# Altium schematic symbol library HAL.SCHLIB: 46 symbols
Pins are listed as number, name and electrical type; pins without a type are passive.

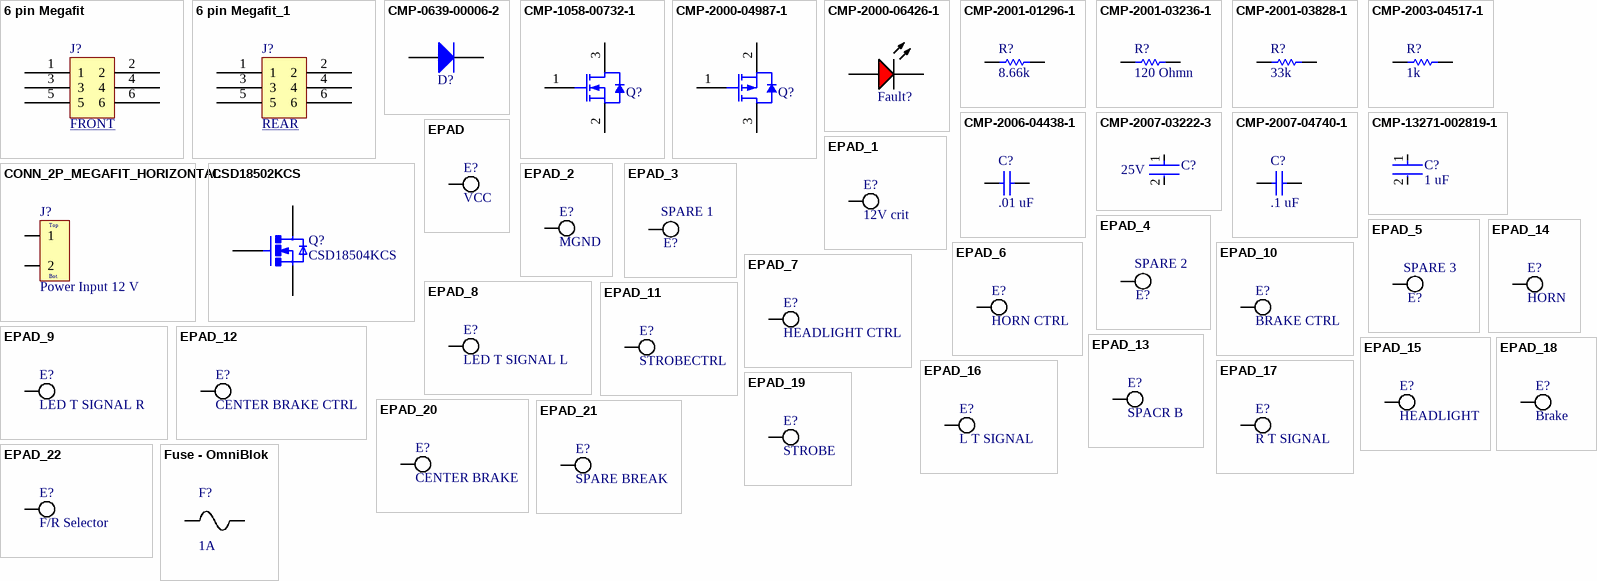
[diagram p0: symbols 6 pin Megafit to Fuse - OmniBlok]

## 6 pin Megafit
designator J?, comment FRONT
768250006-https://www.digikey.com/en/products/detail/molex/0768250006/5639613?s=N4IgTCBcDaIOwDYAcYCsAGTCQF0C%2BQA; ComponentLink1Description: New link; ComponentLink1URL: *https://www.digikey.com/en/products/detail/molex/0768250006/5639613?s=N4IgTCBcDaIOwDYAcYCsAGTCQF0C%2BQA
footprint PCBComponent_1 - duplicate
pins: 1, 2, 3, 4, 5, 6

## 6 pin Megafit_1
designator J?, comment REAR
768250006-https://www.digikey.com/en/products/detail/molex/0768250006/5639613?s=N4IgTCBcDaIOwDYAcYCsAGTCQF0C%2BQA; ComponentLink1Description: New link; ComponentLink1URL: *https://www.digikey.com/en/products/detail/molex/0768250006/5639613?s=N4IgTCBcDaIOwDYAcYCsAGTCQF0C%2BQA
footprint PCBComponent_1
pins: 1, 2, 3, 4, 5, 6

## CMP-0639-00006-2
designator D?, comment 1N4001-T  (value not drawn)
1.0 A Rectifier, 15 pF, 50 V, -65 to 150 degC, 2-Pin DO-41 Plastic, RoHS, Tape and Reel; Manufacturer: Diodes Inc; Manufacturer: Diodes; VF (V): 1; CT (pF): 15; Max. IR (uA): 5; VRRM (V): 50; Max. IFSM (A): 30; RoHS: TRUE; Mounting Technology: Through Hole; PartNumber: 1N4001-T; ComponentLink2Description: Datasheet; DatasheetVersion: Rev. 8-2; Operating Temperature Range (degC): -65 to 150; Packing: Tape and Reel; PackageReference: DO-41-P-2; ComponentLink1URL: http://diodes.com/; PackageDescription: 2-Pin Axial Lead, Body 4.635 x 2.36 mm, Lead Spread 25.4 mm; ComponentLink2URL: http://diodes.com/datasheets/ds28002.pdf; Max. Average Rectified Current IO (A): 1; ComponentLink1Description: Manufacturer URL; Manufacturer Part Number: 1N4001-T
footprint DIOD-DO-41-P-2_V (2-Leads, Axial Lead, Body 4.635x2.36mm, Pin Spacing 9mm)
footprint DIOD-DO-41-P-2_V2 (2-Leads, Axial Lead, Body 4.635x2.36mm, Pin Spacing 3mm)
pins: 1 A, 2 K

## CMP-1058-00732-1
designator Q?, comment NTR4501NT1G  (value not drawn)
Power MOSFET, 20 V, 3.2 A, Single N-Channel, 3-Pin SOT-23, Pb-Free, Tape and Reel; Manufacturer: On Semiconductor; Crss Typ (pF): 50; Ciss Typ (pF): 200; VGS(th) Max (V): 1.2; Coss Typ (pF): 80; PD Max (W): 1.25; VGS Max (V): 12; V(BR)DSS Min (V): 20; Channel Polarity: N Channel; Qrr Typ (nC): 3; PackageReference: SOT-23-3-318-08; ComponentLink2Description: Datasheet; PackageVersion: Rev. AP, 11/2009; ComponentLink1URL: http://www.onsemi.com/; RoHS: Pb-Free; Mounting Technology: Surface Mount; Package Type: SOT-23-3; ComponentLink1Description: Manufacturer URL; PackageDescription: 3-Pin Small Outline Transistor, Body 2.92 x 1.3 mm, Pitch 0.95 mm; Packing: Tape and Reel; PartNumber: NTR4501NT1G; DatasheetVersion: Rev. 13; ComponentLink2URL: http://www.onsemi.cn/pub_link/Collateral/NTR4501N-D.PDF; Configuration: Single; ComponentLink3URL: http://www.onsemi.cn/pub_link/Collateral/318-08.PDF; ComponentLink3Description: Package Specification; Manufacturer: ON Semiconductor; Manufacturer Part Number: NTR4501NT1G
footprint ONSC-SOT-23-3-318-08_V (SOT23, 3-Leads, Body 2.92x1.3mm, Pitch 0.95mm)
pins: 1 G, 2 S, 3 D

## CMP-2000-04987-1
designator Q?, comment IRLML6402TRPBF  (value not drawn)
HEXFET(R) Power P-Channel MOSFET, -20 V, -3.7 A, -55 to 150 degC, 3-Pin SOT-23, RoHS, Tape and Reel; Manufacturer: International Rectifier; Drain-to-Source Voltage [Vdss]: 20V; Rated Power Dissipation: 1.3W; Qg Gate Charge: 8nC; Drain-Source On Resistance-Max: 0.065O; Channel Type: P-Channel; Package Reference: SOT-23-3; Manufacturer URL: http://internationalrectifier.com/; Datasheet URL: http://datasheet.octopart.com/IRLML6402TRPBF-International-Rectifier-datasheet-93882.pdf; Datasheet Version: Feb-05; Package Description: 3-Pin Small Outline Transistor, Body 2.92 x 1.3 mm, Pitch 0.95 mm; Manufacturer Part Number: IRLML6402TRPBF
footprint INTR-SOT-23-3_V (SOT23, 3-Leads, Body 2.92x1.3mm, Pitch 1.9mm)
pins: 1 GATE, 2 SOURCE, 3 DRAIN

## CMP-2000-06426-1
designator Fault?, comment HSMH-C150  (value not drawn)
LED Uni-Color Red, 65 mW, 25 mA, -40 to 85 degC, 2-Pin SMD, RoHS, Tape and Reel; Manufacturer: Avago; Manufacturer: Broadcom Avago; Product Height (mm): 1.1mm; Power Dissipation: 78W; Product Length (mm): 3.2mm; Forward Voltage: 2.6V; Luminous Intensity: 17mcd; DELETED: Compliant; Shape Type: Rectangular; Peak Wavelength: 660nm; Main Category: ChipLED; Dominant Wave Length: 639nm; Rad Hardened: No; Lens Type: ColorlessDiffused; Product Depth (mm): 1.6mm; Reverse Voltage: 5V; Forward Current: 25mA; Chip Material: GaAlAs; Test Current (It): 20mA; Viewing Angle: 170deg; Number of  Elements: 1; Type: Uni-Color; Package Reference: HSMX-C150; Package Description: 2-Pin Surface Mount Device, Body 3.2 x 1.6 mm; Operating Temp Range: -40Cto85C; Mounting: SurfaceMount; Emitting Color: Red; Pin Count: 2; Operating Temperature Classification: Industrial; Datasheet URL: http://media.digikey.com/pdf/Data%20Sheets/Avago%20PDFs/HSMz-Czzz.pdf; Package Type: ChipLed; Mounting Technology: SurfaceMount; High Brightness: No; Lens Dimensions: 2x1.6x0.6mm; Manufacturer URL: http://www.avagotech.com/; Lum Intensity: 17mcd; Datasheet Version: 03/2012; Packaging: TapeandReel; Manufacturer Part Number: HSMH-C150
footprint AVAG-HSMX-C150_V (SMD, 2-Leads, Body 3.2x1.6mm)
pins: 1 A, 2 K

## CMP-2001-01296-1
designator R?, comment 8.66k
RC0805FR-078K66L; Manufacturer: Yageo; Part Number: RC0805FR-078K66L; Manufacturer Part Number: RC0805FR-078K66L
footprint RESC2013X60X35ML10T20 (Chip Resistor, 2-Leads, Body 2.00x1.25mm, IPC Low Density)
footprint RESC2013X60X35NL10T20 (Chip Resistor, 2-Leads, Body 2.00x1.25mm, IPC Medium Density)
footprint RESC2013X60X35LL10T20 (Chip Resistor, 2-Leads, Body 2.00x1.25mm, IPC High Density)
pins: 1, 2
1 alternate drawing of the same symbol

## CMP-2001-03236-1
designator R?, comment 120 Ohmn
RR1220P-121-D; Manufacturer: Susumu; Part Number: RR1220P-121-D; Manufacturer Part Number: RR1220P-121-D
footprint RESC2013X50X40LL20T20 (Chip Resistor, 2-Leads, Body 2.00x1.25mm, IPC High Density)
footprint RESC2013X50X40NL20T20 (Chip Resistor, 2-Leads, Body 2.00x1.25mm, IPC Medium Density)
footprint RESC2013X50X40ML20T20 (Chip Resistor, 2-Leads, Body 2.00x1.25mm, IPC Low Density)
pins: 1, 2
1 alternate drawing of the same symbol

## CMP-2001-03828-1
designator R?, comment 33k
CRCW080533K0JNEA; Manufacturer: Vishay Dale; Part Number: CRCW080533K0JNEA; Manufacturer Part Number: CRCW080533K0JNEA
footprint RESC2013X50X30LL20T20 (Chip Resistor, 2-Leads, Body 2.00x1.25mm, IPC High Density)
footprint RESC2013X50X30ML20T20 (Chip Resistor, 2-Leads, Body 2.00x1.25mm, IPC Low Density)
footprint RESC2013X50X30NL20T20 (Chip Resistor, 2-Leads, Body 2.00x1.25mm, IPC Medium Density)
pins: 1, 2
1 alternate drawing of the same symbol

## CMP-2003-04517-1
designator R?, comment 1k
RK73B2BTTD102J; Manufacturer: KOA Speer; Part Number: RK73B2BTTD102J; Manufacturer Part Number: RK73B2BTTD102J
footprint RESC3216X70X40LL20T20 (Chip Resistor, 2-Leads, Body 3.20x1.60mm, IPC High Density)
footprint RESC3216X70X40ML20T20 (Chip Resistor, 2-Leads, Body 3.20x1.60mm, IPC Low Density)
footprint RESC3216X70X40NL20T20 (Chip Resistor, 2-Leads, Body 3.20x1.60mm, IPC Medium Density)
pins: 1, 2
1 alternate drawing of the same symbol

## CMP-2006-04438-1
designator C?, comment .01 uF
Part Number: 06035C472K4T4A; Manufacturer: AVX Interconnect / Elco; Manufacturer: Kyocera AVX; Manufacturer Part Number: 06035C472K4T4A
footprint CAPC1608X90X35LL15T15 (Chip Capacitor, 2-Leads, Body 1.60x0.81mm, IPC High Density)
footprint CAPC1608X90X35NL15T15 (Chip Capacitor, 2-Leads, Body 1.60x0.81mm, IPC Medium Density)
footprint CAPC1608X90X35ML15T15 (Chip Capacitor, 2-Leads, Body 1.60x0.81mm, IPC Low Density)
pins: 1, 2
1 alternate drawing of the same symbol

## CMP-2007-03222-3
designator C?, comment 25V
Chip Multilayer Ceramic Capacitors for General Purpose, 0805, 22uF, X5R, 15%, 20%, 25VGRM21BR61E226ME44L; Manufacturer: Murata; Case/Package: 0805; Depth: 1.25mm; Resistor Type: Ceramic; Voltage Rating: 25V; Lead Free: Lead Free; Voltage Rating (DC): 25V; Case Code (Metric): 2012; Thickness: 0.057inch; REACH SVHC: No SVHC; Material: Ceramic; Tolerance: 20%; Length: 2mm; Capacitance: 22uF; Case Code (Imperial): 0805; Max Operating Temperature: 85°C; Termination: SMD/SMT; Weight: 0.000335oz; Dielectric: X5R; Packaging: Tape and Reel; Voltage: 25V; Package Quantity: 3000; Height: 1.25mm; Mount: Surface Mount; Width: 1.25mm; Min Operating Temperature: -55°C; Manufacturer Part Number: GRM21BR61E226ME44L
footprint FP-GRM21B-0_2-e0_2_0_7-IPC_B
footprint FP-GRM21B-0_2-e0_2_0_7-MFG
footprint FP-GRM21B-0_2-e0_2_0_7-IPC_C
footprint FP-GRM21B-0_2-e0_2_0_7-IPC_A
pins: 1, 2

## CMP-2007-04740-1
designator C?, comment .1 uF
Part Number: 08051C104M4Z2A; Manufacturer: AVX Interconnect / Elco; Manufacturer: Kyocera AVX; Manufacturer Part Number: 08051C104M4Z2A
footprint CAPC2013X140X50LL20T25 (Chip Capacitor, 2-Leads, Body 2.00x1.25mm, IPC High Density)
footprint CAPC2013X140X50ML20T25 (Chip Capacitor, 2-Leads, Body 2.00x1.25mm, IPC Low Density)
footprint CAPC2013X140X50NL20T25 (Chip Capacitor, 2-Leads, Body 2.00x1.25mm, IPC Medium Density)
pins: 1, 2
1 alternate drawing of the same symbol

## CMP-13271-002819-1
designator C?, comment 1 uF
Cap Ceramic 10uF 16V X5R ±10% SMD 1206 +85°C Embossed T/R; Manufacturer: Samsung; Manufacturer Part Number: CL31A106KOHNNNE; Length: 3.2mm; Voltage: 16V; Thickness: 0.071inch; Width: 0.063inch; Radiation Hardening: No; Tolerance: 10%; Min Operating Temperature: -55°C; Mount: Surface Mount; Voltage Rating: 16V; Capacitance: 10uF; Material: Ceramic; Case Code (Metric): 3216; Depth: 1.6mm; Packaging: Tape and Reel; Lead Free: Lead Free; Dielectric: X5R; Contact Plating: Tin; Case Code (Imperial): 1206; Height: 1.6mm; Voltage Rating (DC): 16V; Max Operating Temperature: 85°C; Case/Package: 1206
footprint FP-CL31-IPC_A
footprint FP-CL31-IPC_C
footprint FP-CL31-IPC_B
pins: 1, 2

## CONN_2P_MEGAFIT_HORIZONTAL
designator J?, comment Power Input 12 V
*; Manufacturer Part Number: 0768250002; Manufacturer: Molex; SchematicInformation: MegaFit_2P; DigiKey Part Number: WM11969-ND
footprint CONN_2P_MEGAFIT_HORIZONTAL
pins: 1, 2
text: Top; Bot.

## CSD18502KCS
designator Q?, comment CSD18504KCS
40V, N ch NexFET MOSFET, single TO-220, 2.9mOhm 3-TO-220 -55 to 175; MP: CSD18502KCS; MF: Texas Instruments; Purchase-URL: https://pricing.snapeda.com/search/part/CSD18502KCS/?ref=eda; Package: TO-220-3 Texas Instruments; Value: *; SnapEDA_Link: https://www.snapeda.com/parts/CSD18502KCS/Texas%20Instruments/view-part/277573/?ref=snap; Price: None; Availability: Good; Check_prices: https://www.snapeda.com/parts/CSD18502KCS/Texas%20Instruments/view-part/277573/?ref=eda
footprint TO254P1651X1067X470-3
pins: 1 GATE, 2 DRAIN, 3 SOURCE, 4 DRAIN, 4.1 DRAIN

## EPAD
designator E?, comment VCC  (no BOM)
Pad for probing signals
footprint EPAD
pins: 1

## EPAD_1
designator E?, comment 12V crit  (no BOM)
Pad for probing signals
footprint EPAD
pins: 1

## EPAD_2
designator E?, comment MGND  (no BOM)
Pad for probing signals
footprint EPAD
pins: 1

## EPAD_3
designator E?, comment SPARE 1  (no BOM)
Pad for probing signals
footprint EPAD
pins: 1

## EPAD_4
designator E?, comment SPARE 2  (no BOM)
Pad for probing signals
footprint EPAD
pins: 1

## EPAD_5
designator E?, comment SPARE 3  (no BOM)
Pad for probing signals
footprint EPAD
pins: 1

## EPAD_6
designator E?, comment HORN CTRL  (no BOM)
Pad for probing signals
footprint EPAD
pins: 1

## EPAD_7
designator E?, comment HEADLIGHT CTRL  (no BOM)
Pad for probing signals
footprint EPAD
pins: 1

## EPAD_8
designator E?, comment LED T SIGNAL L  (no BOM)
Pad for probing signals
footprint EPAD
pins: 1

## EPAD_9
designator E?, comment LED T SIGNAL R  (no BOM)
Pad for probing signals
footprint EPAD
pins: 1

## EPAD_10
designator E?, comment BRAKE CTRL  (no BOM)
Pad for probing signals
footprint EPAD
pins: 1

## EPAD_11
designator E?, comment STROBECTRL  (no BOM)
Pad for probing signals
footprint EPAD
pins: 1

## EPAD_12
designator E?, comment CENTER BRAKE CTRL  (no BOM)
Pad for probing signals
footprint EPAD
pins: 1

## EPAD_13
designator E?, comment SPACR B  (no BOM)
Pad for probing signals
footprint EPAD
pins: 1

## EPAD_14
designator E?, comment HORN  (no BOM)
Pad for probing signals
footprint EPAD
pins: 1

## EPAD_15
designator E?, comment HEADLIGHT  (no BOM)
Pad for probing signals
footprint EPAD
pins: 1

## EPAD_16
designator E?, comment L T SIGNAL  (no BOM)
Pad for probing signals
footprint EPAD
pins: 1

## EPAD_17
designator E?, comment R T SIGNAL  (no BOM)
Pad for probing signals
footprint EPAD
pins: 1

## EPAD_18
designator E?, comment Brake  (no BOM)
Pad for probing signals
footprint EPAD
pins: 1

## EPAD_19
designator E?, comment STROBE  (no BOM)
Pad for probing signals
footprint EPAD
pins: 1

## EPAD_20
designator E?, comment CENTER BRAKE  (no BOM)
Pad for probing signals
footprint EPAD
pins: 1

## EPAD_21
designator E?, comment SPARE BREAK  (no BOM)
Pad for probing signals
footprint EPAD
pins: 1

## EPAD_22
designator E?, comment F/R Selector  (no BOM)
Pad for probing signals
footprint EPAD
pins: 1

## Fuse - OmniBlok
designator F?, comment 1A
OmniBlok fuse Holder; Digikey-Socket: http://www.digikey.com/product-detail/en/littelfuse-inc/01550900M/F1889-ND/2519878; Digikey-Fuse: http://www.digikey.com/product-detail/en/littelfuse-inc/0451001.MRL/F2577CT-ND/813055
footprint OMNIBLOCK FUSE HOLDER
pins: 1, 2

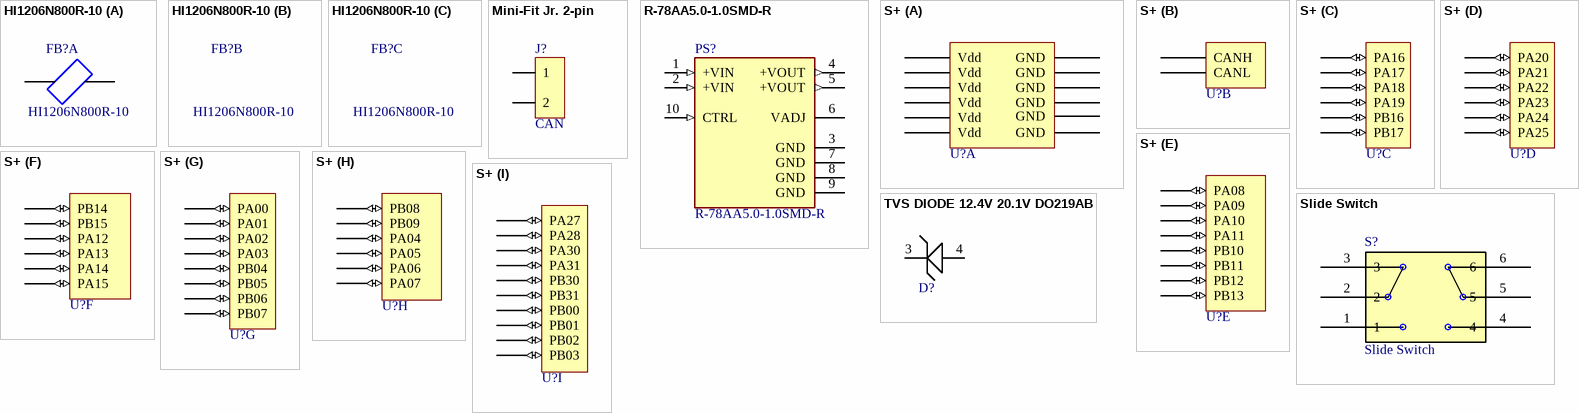
[diagram p1: symbols HI1206N800R-10 to TVS DIODE 12.4V 20.1V DO219AB]

## HI1206N800R-10
designator FB?
80 Ohms @ 100MHz 1 Power, Signal Line Ferrite Bead 1206 (3216 Metric) 3A 35mOhm; MF: Laird-Signal Integrity; SnapEDA_Link: https://www.snapeda.com/parts/HI1206N800R-10/Laird-Signal%20Integrity%20Products/view-part/296889/?ref=snap; Purchase-URL: https://pricing.snapeda.com/search/part/HI1206N800R-10/?ref=eda; Check_prices: https://www.snapeda.com/parts/HI1206N800R-10/Laird-Signal%20Integrity%20Products/view-part/296889/?ref=eda; Value: *; Digi-Key_Part_Number: 240-2409-1-ND; Package: 1206 Laird-Signal Integrity; MP: HI1206N800R-10
footprint FB_HI1206N800R-10
part A pins: 1, 2

## Mini-Fit Jr. 2-pin
designator J?, comment CAN
Mini-Fit Jr. 2-pin Right Angle Mini-Fit Jr. 2-pin; Manufacturer: Molex Inc; Manufacturer Part Number: 0039300020; Connector Type: Header, Shrouded; Number of Positions: 2; Number of Positions Loaded: All; Row Spacing: 0.165" (4.20mm); Ordering: http://search.digikey.com/scripts/DkSearch/dksus.dll?Detail&name=WM1351-ND; Datasheet: http://www.molex.com/pdm_docs/sd/039301020_sd.pdf; Supplier 1: Digi-Key; RoHS: RoHS Compliant; Category: Connectors, Interconnects; Stock 1: 371; Pricing 1: 1=0.77, 10=0.674, 50=0.6078, 100=0.5815, 250=0.5286, 500=0.47574, 1000=0.42288, 2500=0.38324, 5000=0.37002 (USD); Contact Type: Male Pin; Pitch: -; Number of Rows: 2; Contact Mating Length: -; Mounting Type: Through Hole, Right Angle; Termination: Solder; Fastening Type: Locking Ramp; Features: Board Lock; Contact Finish: Tin; Contact Finish Thickness: 200µin (5.08µm); Color: Natural; Packaging: Tray; ComponentLink1URL: http://www.molex.com/pdm_docs/sd/039300020_sd.pdf; ComponentLink1Description: http://www.molex.com/pdm_docs/sd/039300020_sd.pdf
footprint Mini-Fit Jr. 2
pins: 1, 2

## R-78AA5.0-1.0SMD-R
designator PS?
1A DC/DC-Converter 'INNOLINE' SMD reg; MF: Recom Power; Value: *; Package: SMD-10 Recom Power; MP: R-78AA5.0-1.0SMD-R; DigiKey-Purchase-URL: https://snapeda.com/shop?store=DigiKey&id=480105; SnapEDA_Link: https://www.snapeda.com/parts/R-78AA5.0-1.0SMD-R/Recom%20Power/view-part/480105/?ref=snap; Mouser-Purchase-URL: https://snapeda.com/shop?store=Mouser&id=480105; Digi-Key_Part_Number: 945-1044-1-ND
footprint CONV_R-78AA5.0-1.0SMD-R (Footprint not found)
footprint CONV_R-78AA5.0-1.0SMD-R
pins: 1 +VIN (in), 2 +VIN (in), 3 GND (power), 4 +VOUT (out), 5 +VOUT (out), 6 VADJ, 7 GND (power), 8 GND (power), 9 GND (power), 10 CTRL (in)

## S+
designator U?  (value not drawn)
Need to get 4 of PPPC161LFBN-RC; Digi-key: https://www.digikey.com/product-detail/en/sullins-connector-solutions/PPPC161LFBN-RC/S7049-ND/810188; datasheet: https://media.digikey.com/pdf/Data%20Sheets/Sullins%20PDFs/Female_Headers.100_DS.pdf
footprint Compute S+
part A pins: GND, GND, GND, GND, GND, GND, Vdd, Vdd, Vdd, Vdd, Vdd, Vdd
part B pins: CANH, CANL
part C pins: PA16 (io), PA17 (io), PA18 (io), PA19 (io), PB16 (io), PB17 (io)
part D pins: PA20 (io), PA21 (io), PA22 (io), PA23 (io), PA24 (io), PA25 (io)
part E pins: PA08 (io), PA09 (io), PA10 (io), PA11 (io), PB10 (io), PB11 (io), PB12 (io), PB13 (io)
part F pins: PA12 (io), PA13 (io), PA14 (io), PB09 PA15 (io), PB14 (io), PB15 (io)
part G pins: PA00 (io), PA01 (io), PA02 (io), PA03 (io), PB04 (io), PB05 (io), PB06 (io), PB07 (io)
part H pins: PA04 (io), PA05 (io), PA06 (io), PA07 (io), PB08 (io), PB09 (io)
part I pins: PA27 (io), PA28 (io), PA30 (io), PA31 (io), PB00 (io), PB01 (io), PB02 (io), PB03 (io), PB30 (io), PB31 (io)
1 alternate drawing of the same symbol

## Slide Switch
designator S?
footprint Slide Switch (Footprint not found)
pins: 1, 2, 3, 4, 5, 6

## TVS DIODE 12.4V 20.1V DO219AB
designator D?  (value not drawn)
ComponentLink1Description: Digikey; ComponentLink1URL: https://www.digikey.com/product-detail/en/vishay-semiconductor-diodes-division/VTVS12ASMF-M3-08/112-VTVS12ASMF-M3-08CT-ND/7055981; ComponentLink2Description: Datasheet; ComponentLink2URL: http://www.vishay.com/docs/85891/vtvs3v3asmf.pdf
footprint TVS DIODE 12.4V 20.1V DO219AB
pins: 3, 4